# EAGLE library part USB (library DodoLcd)
USB connector
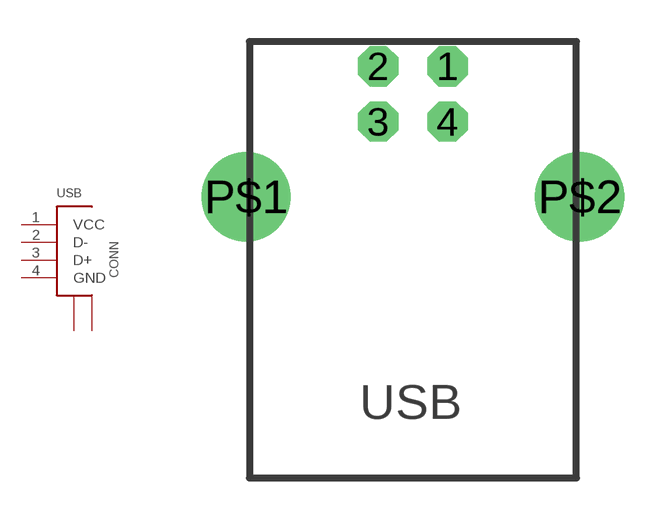
[diagram p7: symbol with the pads of PN61729; footprint PN61729]

Designator prefix CONN

## USB  [PN61729]
1  VCC  sup
2  D-
3  D+
4  GND  sup
P$1  P$1  sup
P$2  P$2  sup

## Footprint PN61729 (pad centres in mm)
BERG
drill 0.95 octagon: 1 1.25,4.71; 2 -1.25,4.71; 3 -1.25,2.71; 4 1.25,2.71
drill 2.2 round: P$1 -6.02,0; P$2 6.02,0